# Altium footprint library BQ27427YZFR.PcbLib: 1 footprints
Each footprint in its own frame and in the unit in brackets; x right, y up, seen from the top. Pads: shape width x height; smd on the part's side, far side on the other; paste and mask are expansions set on the pad; w line width, h text height; cw(c..) or ccw(c..) is an arc to the next point about the centre after c.
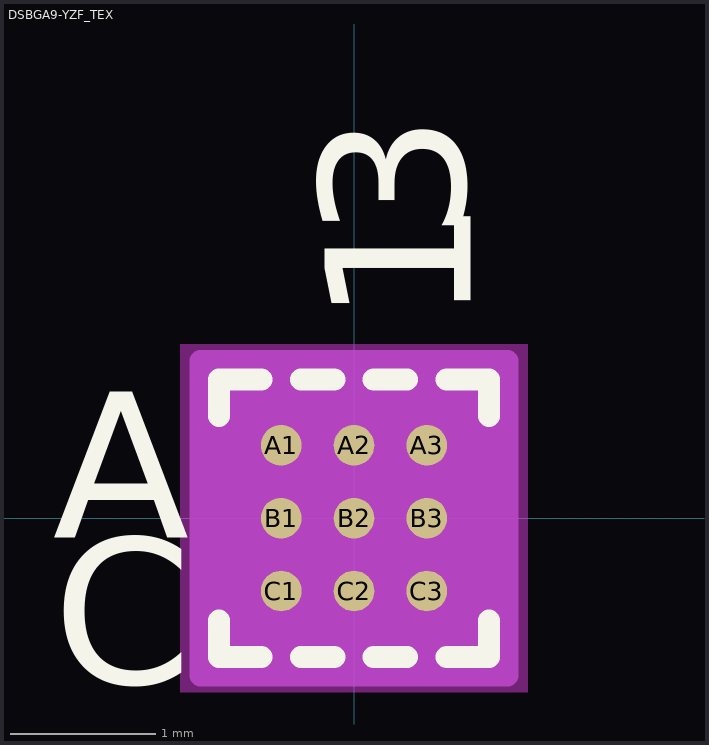
[diagram p0: the footprint, top view; thin cyan lines are the x and y axes]

## DSBGA9-YZF_TEX [mil]
pads (9):
  round 11 smd paste+0 mask+0: A1(-19.69,19.69) A2(0,19.69) A3(19.69,19.69) B1(-19.69,0) B2(0,0) B3(19.69,0) C1(-19.69,-19.69) C2(0,-19.69) C3(19.69,-19.69)
Top Overlay:
  lines w6: -36.5,-27.65 -36.5,-37.5 -25.05,-37.5 ; -36.5,27.65 -36.5,37.5 -25.05,37.5 ; -14.33,-37.5 -5.36,-37.5 ; -14.33,37.5 -5.36,37.5 ; 5.36,-37.5 14.33,-37.5 ; 5.36,37.5 14.33,37.5 ; 25.05,-37.5 36.5,-37.5 36.5,-27.65 ; 25.05,37.5 36.5,37.5 36.5,27.65
  text "3" at 30,75 h50
  text "1" at 31.5,52.17 h50
  text "C" at -81.5,-44.69 h50
  text "A" at -81.5,-5.31 h50
Bottom Overlay:
  text "3" at -20,75 h50
  text "1" at 31.5,52.17 h50
  text "C" at -48.23,-45.28 h50
  text "A" at -48.23,-4.92 h50
Keep-Out Layer:
  region: -47.03,-47.03 -47.03,47.03 47.03,47.03 47.03,-47.03
Mechanical 13:
  lines w1: -31.5,22.66 -21.66,32.5 ; -31.5,-32.5 -31.5,32.5 31.5,32.5 31.5,-32.5 -31.5,-32.5
  text "3" at 30,75 h50
  text "1" at 31.5,52.17 h50
  text "C" at -81.5,-44.69 h50
  text "A" at -81.5,-5.31 h50
Mechanical 15:
  region: 41.5,-42.5 -41.5,-42.5 -41.5,42.5 41.5,42.5
  lines w6: -41.5,-42.5 41.5,-42.5 41.5,42.5 -41.5,42.5 -41.5,-42.5
3D body "DSBGA9-YZF_TEX.step": height 25.12, standoff 0.01, extent -31.5,-32.52 31.5,32.52